# Altium footprint library IPC-7355 CQFP_Sq_63P_Side_L.PcbLib: 4 footprints
Each footprint in its own frame and in the unit in brackets; x right, y up, seen from the top. Pads: shape width x height; smd on the part's side, far side on the other; paste and mask are expansions set on the pad; w line width, h text height; cw(c..) or ccw(c..) is an arc to the next point about the centre after c.
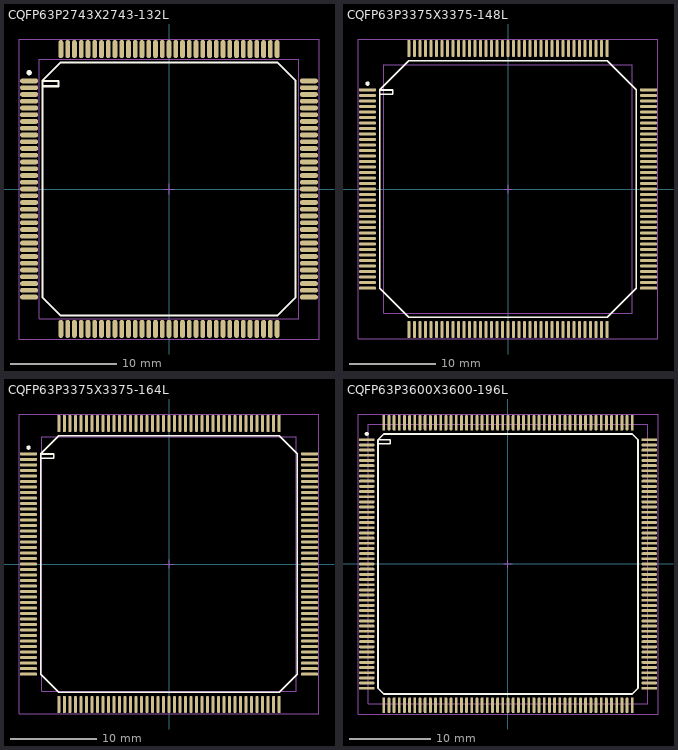
[diagram p0: the footprints below, top view; thin cyan lines are the x and y axes]

## CQFP63P2743X2743-132L [mm] "CQFP, 132-Leads, Body 24x24mm; Pitch 0.635mm, Gullwing Leadform, IPC High Density"
height 3.6
pads (132):
  oval 1.7x0.45 smd: 1(-13.15,10.16) 2(-13.15,9.525) 3(-13.15,8.89) 4(-13.15,8.255) 5(-13.15,7.62) 6(-13.15,6.985) 7(-13.15,6.35) 8(-13.15,5.715) 9(-13.15,5.08) 10(-13.15,4.445) 11(-13.15,3.81) 12(-13.15,3.175) 13(-13.15,2.54) 14(-13.15,1.905) 15(-13.15,1.27) 16(-13.15,0.635) 17(-13.15,0) 18(-13.15,-0.635) 19(-13.15,-1.27) 20(-13.15,-1.905) 21(-13.15,-2.54) 22(-13.15,-3.175) 23(-13.15,-3.81) 24(-13.15,-4.445) 25(-13.15,-5.08) 26(-13.15,-5.715) 27(-13.15,-6.35) 28(-13.15,-6.985) 29(-13.15,-7.62) 30(-13.15,-8.255) 31(-13.15,-8.89) 32(-13.15,-9.525) 33(-13.15,-10.16) 67(13.15,-10.16) 68(13.15,-9.525) 69(13.15,-8.89) 70(13.15,-8.255) 71(13.15,-7.62) 72(13.15,-6.985) 73(13.15,-6.35) 74(13.15,-5.715) 75(13.15,-5.08) 76(13.15,-4.445) 77(13.15,-3.81) 78(13.15,-3.175) 79(13.15,-2.54) 80(13.15,-1.905) 81(13.15,-1.27) 82(13.15,-0.635) 83(13.15,0) 84(13.15,0.635) 85(13.15,1.27) 86(13.15,1.905) 87(13.15,2.54) 88(13.15,3.175) 89(13.15,3.81) 90(13.15,4.445) 91(13.15,5.08) 92(13.15,5.715) 93(13.15,6.35) 94(13.15,6.985) 95(13.15,7.62) 96(13.15,8.255) 97(13.15,8.89) 98(13.15,9.525) 99(13.15,10.16)
  oval 0.45x1.7 smd: 34(-10.16,-13.15) 35(-9.525,-13.15) 36(-8.89,-13.15) 37(-8.255,-13.15) 38(-7.62,-13.15) 39(-6.985,-13.15) 40(-6.35,-13.15) 41(-5.715,-13.15) 42(-5.08,-13.15) 43(-4.445,-13.15) 44(-3.81,-13.15) 45(-3.175,-13.15) 46(-2.54,-13.15) 47(-1.905,-13.15) 48(-1.27,-13.15) 49(-0.635,-13.15) 50(0,-13.15) 51(0.635,-13.15) 52(1.27,-13.15) 53(1.905,-13.15) 54(2.54,-13.15) 55(3.175,-13.15) 56(3.81,-13.15) 57(4.445,-13.15) 58(5.08,-13.15) 59(5.715,-13.15) 60(6.35,-13.15) 61(6.985,-13.15) 62(7.62,-13.15) 63(8.255,-13.15) 64(8.89,-13.15) 65(9.525,-13.15) 66(10.16,-13.15) 100(10.16,13.15) 101(9.525,13.15) 102(8.89,13.15) 103(8.255,13.15) 104(7.62,13.15) 105(6.985,13.15) 106(6.35,13.15) 107(5.715,13.15) 108(5.08,13.15) 109(4.445,13.15) 110(3.81,13.15) 111(3.175,13.15) 112(2.54,13.15) 113(1.905,13.15) 114(1.27,13.15) 115(0.635,13.15) 116(0,13.15) 117(-0.635,13.15) 118(-1.27,13.15) 119(-1.905,13.15) 120(-2.54,13.15) 121(-3.175,13.15) 122(-3.81,13.15) 123(-4.445,13.15) 124(-5.08,13.15) 125(-5.715,13.15) 126(-6.35,13.15) 127(-6.985,13.15) 128(-7.62,13.15) 129(-8.255,13.15) 130(-8.89,13.15) 131(-9.525,13.15) 132(-10.16,13.15)
Top Overlay:
  circle w0.25: c-13.15,10.935 r0.125
  lines w0.2: -11.9,9.66 -10.4,9.66 -10.4,10.16 -11.9,10.16 ; -11.9,10.16 -11.9,-10.16 -10.16,-11.9 10.16,-11.9 11.9,-10.16 11.9,10.16 10.16,11.9 -10.16,11.9 -11.9,10.16
Mechanical 13:
  lines w0.1: -12.19,-12.19 -12.19,12.19 12.19,12.19 12.19,-12.19 -12.19,-12.19
Mechanical 15:
  lines w0.1: -0.5,0 0.5,0 ; 0,-0.5 0,0.5 ; -14.1,-14.1 -14.1,14.1 14.1,14.1 14.1,-14.1 -14.1,-14.1
3D body: height 3.6, standoff 0, extent -12.19,-12.19 12.19,12.19

## CQFP63P3375X3375-148L [mm] "CQFP, 148-Leads, Body 28.5x28.5mm; Pitch 0.635mm, Gullwing Leadform, IPC High Density"
height 3.1
pads (148):
  oval 2x0.35 smd: 1(-16.2,11.43) 2(-16.2,10.795) 3(-16.2,10.16) 4(-16.2,9.525) 5(-16.2,8.89) 6(-16.2,8.255) 7(-16.2,7.62) 8(-16.2,6.985) 9(-16.2,6.35) 10(-16.2,5.715) 11(-16.2,5.08) 12(-16.2,4.445) 13(-16.2,3.81) 14(-16.2,3.175) 15(-16.2,2.54) 16(-16.2,1.905) 17(-16.2,1.27) 18(-16.2,0.635) 19(-16.2,0) 20(-16.2,-0.635) 21(-16.2,-1.27) 22(-16.2,-1.905) 23(-16.2,-2.54) 24(-16.2,-3.175) 25(-16.2,-3.81) 26(-16.2,-4.445) 27(-16.2,-5.08) 28(-16.2,-5.715) 29(-16.2,-6.35) 30(-16.2,-6.985) 31(-16.2,-7.62) 32(-16.2,-8.255) 33(-16.2,-8.89) 34(-16.2,-9.525) 35(-16.2,-10.16) 36(-16.2,-10.795) 37(-16.2,-11.43) 75(16.2,-11.43) 76(16.2,-10.795) 77(16.2,-10.16) 78(16.2,-9.525) 79(16.2,-8.89) 80(16.2,-8.255) 81(16.2,-7.62) 82(16.2,-6.985) 83(16.2,-6.35) 84(16.2,-5.715) 85(16.2,-5.08) 86(16.2,-4.445) 87(16.2,-3.81) 88(16.2,-3.175) 89(16.2,-2.54) 90(16.2,-1.905) 91(16.2,-1.27) 92(16.2,-0.635) 93(16.2,0) 94(16.2,0.635) 95(16.2,1.27) 96(16.2,1.905) 97(16.2,2.54) 98(16.2,3.175) 99(16.2,3.81) 100(16.2,4.445) 101(16.2,5.08) 102(16.2,5.715) 103(16.2,6.35) 104(16.2,6.985) 105(16.2,7.62) 106(16.2,8.255) 107(16.2,8.89) 108(16.2,9.525) 109(16.2,10.16) 110(16.2,10.795) 111(16.2,11.43)
  oval 0.35x2 smd: 38(-11.43,-16.2) 39(-10.795,-16.2) 40(-10.16,-16.2) 41(-9.525,-16.2) 42(-8.89,-16.2) 43(-8.255,-16.2) 44(-7.62,-16.2) 45(-6.985,-16.2) 46(-6.35,-16.2) 47(-5.715,-16.2) 48(-5.08,-16.2) 49(-4.445,-16.2) 50(-3.81,-16.2) 51(-3.175,-16.2) 52(-2.54,-16.2) 53(-1.905,-16.2) 54(-1.27,-16.2) 55(-0.635,-16.2) 56(0,-16.2) 57(0.635,-16.2) 58(1.27,-16.2) 59(1.905,-16.2) 60(2.54,-16.2) 61(3.175,-16.2) 62(3.81,-16.2) 63(4.445,-16.2) 64(5.08,-16.2) 65(5.715,-16.2) 66(6.35,-16.2) 67(6.985,-16.2) 68(7.62,-16.2) 69(8.255,-16.2) 70(8.89,-16.2) 71(9.525,-16.2) 72(10.16,-16.2) 73(10.795,-16.2) 74(11.43,-16.2) 112(11.43,16.2) 113(10.795,16.2) 114(10.16,16.2) 115(9.525,16.2) 116(8.89,16.2) 117(8.255,16.2) 118(7.62,16.2) 119(6.985,16.2) 120(6.35,16.2) 121(5.715,16.2) 122(5.08,16.2) 123(4.445,16.2) 124(3.81,16.2) 125(3.175,16.2) 126(2.54,16.2) 127(1.905,16.2) 128(1.27,16.2) 129(0.635,16.2) 130(0,16.2) 131(-0.635,16.2) 132(-1.27,16.2) 133(-1.905,16.2) 134(-2.54,16.2) 135(-3.175,16.2) 136(-3.81,16.2) 137(-4.445,16.2) 138(-5.08,16.2) 139(-5.715,16.2) 140(-6.35,16.2) 141(-6.985,16.2) 142(-7.62,16.2) 143(-8.255,16.2) 144(-8.89,16.2) 145(-9.525,16.2) 146(-10.16,16.2) 147(-10.795,16.2) 148(-11.43,16.2)
Top Overlay:
  circle w0.25: c-16.2,12.155 r0.125
  lines w0.2: -14.8,10.93 -13.3,10.93 -13.3,11.43 -14.8,11.43 ; -14.8,11.43 -11.43,14.8 11.43,14.8 14.8,11.43 14.8,-11.43 11.43,-14.8 -11.43,-14.8 -14.8,-11.43 -14.8,11.43
Mechanical 13:
  lines w0.1: -14.355,-14.355 14.355,-14.355 14.355,14.355 -14.355,14.355 -14.355,-14.355
Mechanical 15:
  lines w0.1: -0.5,0 0.5,0 ; 0,-0.5 0,0.5 ; -17.3,-17.3 17.3,-17.3 17.3,17.3 -17.3,17.3 -17.3,-17.3
3D body: height 3.1, standoff 0, extent -14.355,-14.355 14.355,14.355

## CQFP63P3375X3375-164L [mm] "CQFP, 164-Leads, Body 29x29mm; Pitch 0.635mm, Gullwing Leadform, IPC High Density"
height 3.4
pads (164):
  oval 2x0.35 smd: 1(-16.2,12.7) 2(-16.2,12.065) 3(-16.2,11.43) 4(-16.2,10.795) 5(-16.2,10.16) 6(-16.2,9.525) 7(-16.2,8.89) 8(-16.2,8.255) 9(-16.2,7.62) 10(-16.2,6.985) 11(-16.2,6.35) 12(-16.2,5.715) 13(-16.2,5.08) 14(-16.2,4.445) 15(-16.2,3.81) 16(-16.2,3.175) 17(-16.2,2.54) 18(-16.2,1.905) 19(-16.2,1.27) 20(-16.2,0.635) 21(-16.2,0) 22(-16.2,-0.635) 23(-16.2,-1.27) 24(-16.2,-1.905) 25(-16.2,-2.54) 26(-16.2,-3.175) 27(-16.2,-3.81) 28(-16.2,-4.445) 29(-16.2,-5.08) 30(-16.2,-5.715) 31(-16.2,-6.35) 32(-16.2,-6.985) 33(-16.2,-7.62) 34(-16.2,-8.255) 35(-16.2,-8.89) 36(-16.2,-9.525) 37(-16.2,-10.16) 38(-16.2,-10.795) 39(-16.2,-11.43) 40(-16.2,-12.065) 41(-16.2,-12.7) 83(16.2,-12.7) 84(16.2,-12.065) 85(16.2,-11.43) 86(16.2,-10.795) 87(16.2,-10.16) 88(16.2,-9.525) 89(16.2,-8.89) 90(16.2,-8.255) 91(16.2,-7.62) 92(16.2,-6.985) 93(16.2,-6.35) 94(16.2,-5.715) 95(16.2,-5.08) 96(16.2,-4.445) 97(16.2,-3.81) 98(16.2,-3.175) 99(16.2,-2.54) 100(16.2,-1.905) 101(16.2,-1.27) 102(16.2,-0.635) 103(16.2,0) 104(16.2,0.635) 105(16.2,1.27) 106(16.2,1.905) 107(16.2,2.54) 108(16.2,3.175) 109(16.2,3.81) 110(16.2,4.445) 111(16.2,5.08) 112(16.2,5.715) 113(16.2,6.35) 114(16.2,6.985) 115(16.2,7.62) 116(16.2,8.255) 117(16.2,8.89) 118(16.2,9.525) 119(16.2,10.16) 120(16.2,10.795) 121(16.2,11.43) 122(16.2,12.065) 123(16.2,12.7)
  oval 0.35x2 smd: 42(-12.7,-16.2) 43(-12.065,-16.2) 44(-11.43,-16.2) 45(-10.795,-16.2) 46(-10.16,-16.2) 47(-9.525,-16.2) 48(-8.89,-16.2) 49(-8.255,-16.2) 50(-7.62,-16.2) 51(-6.985,-16.2) 52(-6.35,-16.2) 53(-5.715,-16.2) 54(-5.08,-16.2) 55(-4.445,-16.2) 56(-3.81,-16.2) 57(-3.175,-16.2) 58(-2.54,-16.2) 59(-1.905,-16.2) 60(-1.27,-16.2) 61(-0.635,-16.2) 62(0,-16.2) 63(0.635,-16.2) 64(1.27,-16.2) 65(1.905,-16.2) 66(2.54,-16.2) 67(3.175,-16.2) 68(3.81,-16.2) 69(4.445,-16.2) 70(5.08,-16.2) 71(5.715,-16.2) 72(6.35,-16.2) 73(6.985,-16.2) 74(7.62,-16.2) 75(8.255,-16.2) 76(8.89,-16.2) 77(9.525,-16.2) 78(10.16,-16.2) 79(10.795,-16.2) 80(11.43,-16.2) 81(12.065,-16.2) 82(12.7,-16.2) 124(12.7,16.2) 125(12.065,16.2) 126(11.43,16.2) 127(10.795,16.2) 128(10.16,16.2) 129(9.525,16.2) 130(8.89,16.2) 131(8.255,16.2) 132(7.62,16.2) 133(6.985,16.2) 134(6.35,16.2) 135(5.715,16.2) 136(5.08,16.2) 137(4.445,16.2) 138(3.81,16.2) 139(3.175,16.2) 140(2.54,16.2) 141(1.905,16.2) 142(1.27,16.2) 143(0.635,16.2) 144(0,16.2) 145(-0.635,16.2) 146(-1.27,16.2) 147(-1.905,16.2) 148(-2.54,16.2) 149(-3.175,16.2) 150(-3.81,16.2) 151(-4.445,16.2) 152(-5.08,16.2) 153(-5.715,16.2) 154(-6.35,16.2) 155(-6.985,16.2) 156(-7.62,16.2) 157(-8.255,16.2) 158(-8.89,16.2) 159(-9.525,16.2) 160(-10.16,16.2) 161(-10.795,16.2) 162(-11.43,16.2) 163(-12.065,16.2) 164(-12.7,16.2)
Top Overlay:
  circle w0.25: c-16.2,13.425 r0.125
  lines w0.2: -14.8,12.2 -13.3,12.2 -13.3,12.7 -14.8,12.7 ; -14.8,12.7 -12.7,14.8 12.7,14.8 14.8,12.7 14.8,-12.7 12.7,-14.8 -12.7,-14.8 -14.8,-12.7 -14.8,12.7
Mechanical 13:
  lines w0.1: -14.65,-14.65 14.65,-14.65 14.65,14.65 -14.65,14.65 -14.65,-14.65
Mechanical 15:
  lines w0.1: -0.5,0 0.5,0 ; 0,-0.5 0,0.5 ; -17.3,-17.3 17.3,-17.3 17.3,17.3 -17.3,17.3 -17.3,-17.3
3D body: height 3.4, standoff 0, extent -14.65,-14.65 14.65,14.65

## CQFP63P3600X3600-196L [mm] "CQFP, 196-Leads, Body 34x34mm; Pitch 0.635mm, Gullwing Leadform, IPC High Density"
height 3.5
pads (196):
  oval 1.95x0.35 smd: 1(-17.325,15.24) 2(-17.325,14.605) 3(-17.325,13.97) 4(-17.325,13.335) 5(-17.325,12.7) 6(-17.325,12.065) 7(-17.325,11.43) 8(-17.325,10.795) 9(-17.325,10.16) 10(-17.325,9.525) 11(-17.325,8.89) 12(-17.325,8.255) 13(-17.325,7.62) 14(-17.325,6.985) 15(-17.325,6.35) 16(-17.325,5.715) 17(-17.325,5.08) 18(-17.325,4.445) 19(-17.325,3.81) 20(-17.325,3.175) 21(-17.325,2.54) 22(-17.325,1.905) 23(-17.325,1.27) 24(-17.325,0.635) 25(-17.325,0) 26(-17.325,-0.635) 27(-17.325,-1.27) 28(-17.325,-1.905) 29(-17.325,-2.54) 30(-17.325,-3.175) 31(-17.325,-3.81) 32(-17.325,-4.445) 33(-17.325,-5.08) 34(-17.325,-5.715) 35(-17.325,-6.35) 36(-17.325,-6.985) 37(-17.325,-7.62) 38(-17.325,-8.255) 39(-17.325,-8.89) 40(-17.325,-9.525) 41(-17.325,-10.16) 42(-17.325,-10.795) 43(-17.325,-11.43) 44(-17.325,-12.065) 45(-17.325,-12.7) 46(-17.325,-13.335) 47(-17.325,-13.97) 48(-17.325,-14.605) 49(-17.325,-15.24) 99(17.325,-15.24) 100(17.325,-14.605) 101(17.325,-13.97) 102(17.325,-13.335) 103(17.325,-12.7) 104(17.325,-12.065) 105(17.325,-11.43) 106(17.325,-10.795) 107(17.325,-10.16) 108(17.325,-9.525) 109(17.325,-8.89) 110(17.325,-8.255) 111(17.325,-7.62) 112(17.325,-6.985) 113(17.325,-6.35) 114(17.325,-5.715) 115(17.325,-5.08) 116(17.325,-4.445) 117(17.325,-3.81) 118(17.325,-3.175) 119(17.325,-2.54) 120(17.325,-1.905) 121(17.325,-1.27) 122(17.325,-0.635) 123(17.325,0) 124(17.325,0.635) 125(17.325,1.27) 126(17.325,1.905) 127(17.325,2.54) 128(17.325,3.175) 129(17.325,3.81) 130(17.325,4.445) 131(17.325,5.08) 132(17.325,5.715) 133(17.325,6.35) 134(17.325,6.985) 135(17.325,7.62) 136(17.325,8.255) 137(17.325,8.89) 138(17.325,9.525) 139(17.325,10.16) 140(17.325,10.795) 141(17.325,11.43) 142(17.325,12.065) 143(17.325,12.7) 144(17.325,13.335) 145(17.325,13.97) 146(17.325,14.605) 147(17.325,15.24)
  oval 0.35x1.95 smd: 50(-15.24,-17.325) 51(-14.605,-17.325) 52(-13.97,-17.325) 53(-13.335,-17.325) 54(-12.7,-17.325) 55(-12.065,-17.325) 56(-11.43,-17.325) 57(-10.795,-17.325) 58(-10.16,-17.325) 59(-9.525,-17.325) 60(-8.89,-17.325) 61(-8.255,-17.325) 62(-7.62,-17.325) 63(-6.985,-17.325) 64(-6.35,-17.325) 65(-5.715,-17.325) 66(-5.08,-17.325) 67(-4.445,-17.325) 68(-3.81,-17.325) 69(-3.175,-17.325) 70(-2.54,-17.325) 71(-1.905,-17.325) 72(-1.27,-17.325) 73(-0.635,-17.325) 74(0,-17.325) 75(0.635,-17.325) 76(1.27,-17.325) 77(1.905,-17.325) 78(2.54,-17.325) 79(3.175,-17.325) 80(3.81,-17.325) 81(4.445,-17.325) 82(5.08,-17.325) 83(5.715,-17.325) 84(6.35,-17.325) 85(6.985,-17.325) 86(7.62,-17.325) 87(8.255,-17.325) 88(8.89,-17.325) 89(9.525,-17.325) 90(10.16,-17.325) 91(10.795,-17.325) 92(11.43,-17.325) 93(12.065,-17.325) 94(12.7,-17.325) 95(13.335,-17.325) 96(13.97,-17.325) 97(14.605,-17.325) 98(15.24,-17.325) 148(15.24,17.325) 149(14.605,17.325) 150(13.97,17.325) 151(13.335,17.325) 152(12.7,17.325) 153(12.065,17.325) 154(11.43,17.325) 155(10.795,17.325) 156(10.16,17.325) 157(9.525,17.325) 158(8.89,17.325) 159(8.255,17.325) 160(7.62,17.325) 161(6.985,17.325) 162(6.35,17.325) 163(5.715,17.325) 164(5.08,17.325) 165(4.445,17.325) 166(3.81,17.325) 167(3.175,17.325) 168(2.54,17.325) 169(1.905,17.325) 170(1.27,17.325) 171(0.635,17.325) 172(0,17.325) 173(-0.635,17.325) 174(-1.27,17.325) 175(-1.905,17.325) 176(-2.54,17.325) 177(-3.175,17.325) 178(-3.81,17.325) 179(-4.445,17.325) 180(-5.08,17.325) 181(-5.715,17.325) 182(-6.35,17.325) 183(-6.985,17.325) 184(-7.62,17.325) 185(-8.255,17.325) 186(-8.89,17.325) 187(-9.525,17.325) 188(-10.16,17.325) 189(-10.795,17.325) 190(-11.43,17.325) 191(-12.065,17.325) 192(-12.7,17.325) 193(-13.335,17.325) 194(-13.97,17.325) 195(-14.605,17.325) 196(-15.24,17.325)
Top Overlay:
  circle w0.25: c-17.325,15.965 r0.125
  lines w0.2: -15.95,14.74 -14.45,14.74 -14.45,15.24 -15.95,15.24 ; -15.95,15.24 -15.95,-15.24 -15.24,-15.95 15.24,-15.95 15.95,-15.24 15.95,15.24 15.24,15.95 -15.24,15.95 -15.95,15.24
Mechanical 13:
  lines w0.1: -17.15,-17.15 -17.15,17.15 17.15,17.15 17.15,-17.15 -17.15,-17.15
Mechanical 15:
  lines w0.1: -0.5,0 0.5,0 ; 0,-0.5 0,0.5 ; -18.4,-18.4 -18.4,18.4 18.4,18.4 18.4,-18.4 -18.4,-18.4
3D body: height 3.5, standoff 0, extent -17.15,-17.15 17.15,17.15